# Altium schematic symbol library features.SchLib: 1 symbol
Pins are listed as number, name and electrical type; pins without a type are passive.

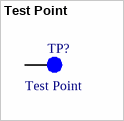
[diagram p0: symbol Test Point]

## Test Point
designator TP?  Part Number: Test Point  (no BOM)
generic test point; Value: 1mm
pins: 1 TP